# Altium footprint library pads.PcbLib: 30 footprints (part 2 of 2)
Each footprint in its own frame and in the unit in brackets; x right, y up, seen from the top. Pads: shape width x height; smd on the part's side, far side on the other; paste and mask are expansions set on the pad; w line width, h text height; cw(c..) or ccw(c..) is an arc to the next point about the centre after c.
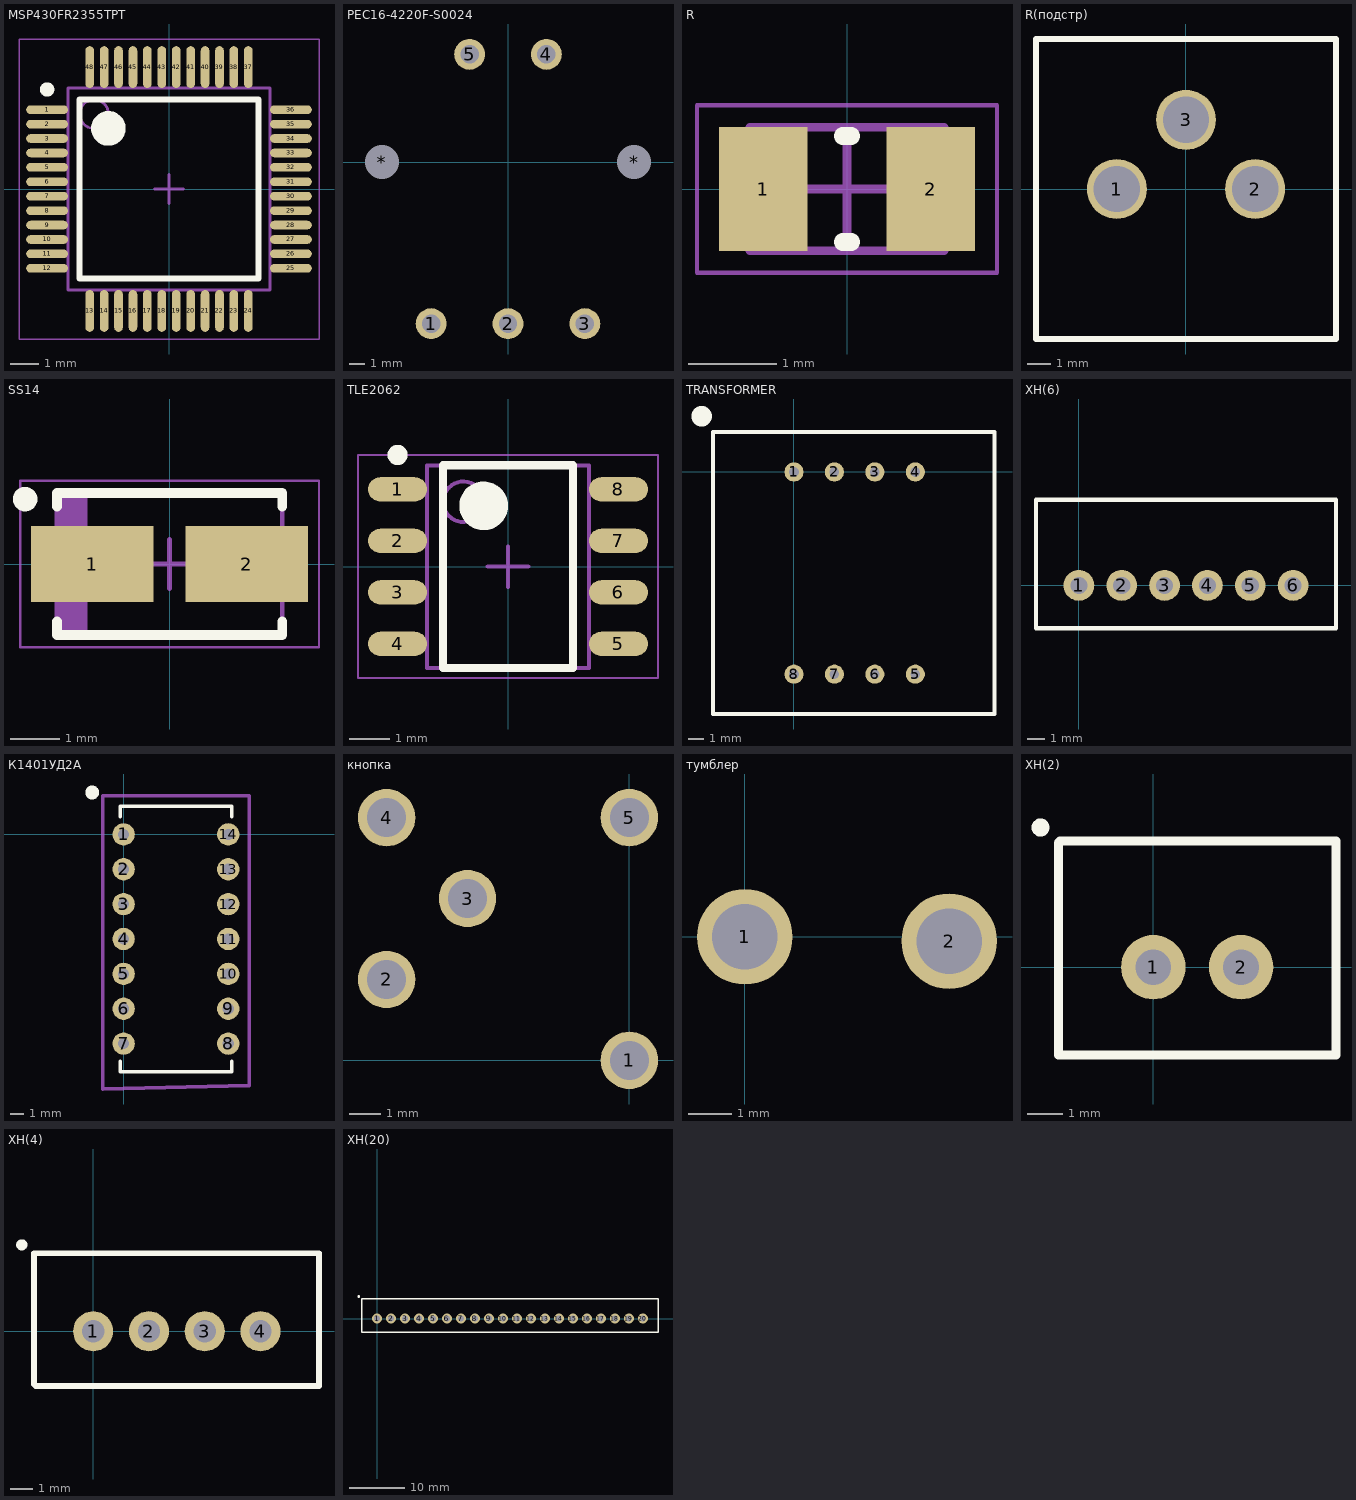
[diagram p1: the footprints below, top view; thin cyan lines are the x and y axes]

## MSP430FR2355TPT [mm] "TSQFP, 48-Leads, Body 7,00x7,00mm, Pitch 0,50mm, IPC Medium Density"
height 1.6
pads (48):
  oval 1.45x0.3 smd: 1(-4.225,2.75) 2(-4.225,2.25) 3(-4.225,1.75) 4(-4.225,1.25) 5(-4.225,0.75) 6(-4.225,0.25) 7(-4.225,-0.25) 8(-4.225,-0.75) 9(-4.225,-1.25) 10(-4.225,-1.75) 11(-4.225,-2.25) 12(-4.225,-2.75) 25(4.225,-2.75) 26(4.225,-2.25) 27(4.225,-1.75) 28(4.225,-1.25) 29(4.225,-0.75) 30(4.225,-0.25) 31(4.225,0.25) 32(4.225,0.75) 33(4.225,1.25) 34(4.225,1.75) 35(4.225,2.25) 36(4.225,2.75)
  oval 0.3x1.45 smd: 13(-2.75,-4.225) 14(-2.25,-4.225) 15(-1.75,-4.225) 16(-1.25,-4.225) 17(-0.75,-4.225) 18(-0.25,-4.225) 19(0.25,-4.225) 20(0.75,-4.225) 21(1.25,-4.225) 22(1.75,-4.225) 23(2.25,-4.225) 24(2.75,-4.225) 37(2.75,4.225) 38(2.25,4.225) 39(1.75,4.225) 40(1.25,4.225) 41(0.75,4.225) 42(0.25,4.225) 43(-0.25,4.225) 44(-0.75,4.225) 45(-1.25,4.225) 46(-1.75,4.225) 47(-2.25,4.225) 48(-2.75,4.225)
Top Overlay:
  circle w0.6: c-2.1,2.1 r0.3
  circle w0.25: c-4.225,3.45 r0.125
  lines w0.2: -3.1,-3.1 3.1,-3.1 3.1,3.1 -3.1,3.1 -3.1,-3.1
Mechanical 13:
  circle w0.1: c-2.6,2.6 r0.5
  lines w0.1: -3.5,-3.5 3.5,-3.5 3.5,3.5 -3.5,3.5 -3.5,-3.5
Mechanical 15:
  lines w0.05: -5.2,-5.2 5.2,-5.2 5.2,5.2 -5.2,5.2 -5.2,-5.2
  lines w0.1: -0.5,0 0.5,0 ; 0,-0.5 0,0.5
3D body "TSQFP50P900X900X160-48N.step": height 1.6, standoff 0, extent -4.5,-4.5 4.5,4.5

## PEC16-4220F-S0024 [mm]
pads (7):
  round 2 hole 1.2: 1(-5,-10.5) 2(0,-10.5) 3(5,-10.5) 4(2.5,7) 5(-2.5,7)
  round 2 hole 2.2 unplated: *(-8.2,0) *(8.2,0)
3D body "User Library-Encoder PEC16-4220F-S0024 BOURNS.step": height 28.3, standoff -3.2, extent -8.25,-12.5 8.25,8.3

## R [mm] "Chip Resistor, 2-Leads, Body 2,10x1,30mm, IPC Medium Density"
height 0.6
pads (2):
  rect 1x1.4 smd: 1(-0.95,0) 2(0.95,0)
Top Overlay:
  lines w0.2: -0.05,-0.6 0.05,-0.6 ; -0.05,0.6 0.05,0.6
Mechanical 13:
  lines w0.1: -1.1,-0.7 1.1,-0.7 1.1,0.7 -1.1,0.7 -1.1,-0.7
Mechanical 15:
  lines w0.05: -1.7,-0.95 1.7,-0.95 1.7,0.95 -1.7,0.95 -1.7,-0.95
  lines w0.1: -0.5,0 0.5,0 ; 0,-0.5 0,0.5
3D body "RESC2113X06N.step": height 0.6, standoff 0, extent -1.1,-0.7 1.1,0.7

## R(подстр) [mm]
pads (3):
  round 2.6 hole 2: 1(-3,0) 2(3,0) 3(0,3)
Top Overlay:
  lines w0.254: -6.5,-6.5 -6.5,0 -6.5,6.5 6.5,6.5 6.5,-6.5 -6.5,-6.5 ; -6.5,-6.5 -6.5,-6.5
3D body: height 0.5, standoff 0.5, extent -3.893,-0.898 -2.1,0.898
3D body: height 0.5, standoff 0.5, extent -0.893,2.102 0.9,3.899
3D body: height 0.5, standoff 0.5, extent 2.107,-0.898 3.9,0.898
3D body: height 6, standoff 0.5, extent -6.5,-6.3 6.3,6.5

## SS14 [mm] "Molded Diode, 2-Leads, Body 4,30x2,70mm, IPC Medium Density"
height 2.44
pads (2):
  rect 2.5x1.55 smd: 1(-1.575,0) 2(1.575,0)
Top Overlay:
  circle w0.25: c-2.95,1.325 r0.125
  lines w0.2: -2.3,-1.175 -2.3,-1.45 2.3,-1.45 2.3,-1.175 ; -2.3,1.175 -2.3,1.45 2.3,1.45 2.3,1.175
Mechanical 13:
  rectangle: -2.3,-1.45 -1.681,1.45
  lines w0.1: -2.3,-1.45 -2.3,1.45 2.3,1.45 2.3,-1.45 -2.3,-1.45
Mechanical 15:
  lines w0.05: -3.05,-1.7 -3.05,1.7 3.05,1.7 3.05,-1.7 -3.05,-1.7
  lines w0.1: -0.5,0 0.5,0 ; 0,-0.5 0,0.5
3D body "DIOM4327X24N.step": height 2.44, standoff 0, extent -2.52,-1.45 2.52,1.45

## TLE2062 [mm] "SOIC, 8-Leads, Body 4,91x3,90mm, Pitch 1,27mm, IPC Medium Density"
height 1.75
pads (8):
  oval 1.45x0.6 smd: 1(-2.725,1.905) 2(-2.725,0.635) 3(-2.725,-0.635) 4(-2.725,-1.905) 5(2.725,-1.905) 6(2.725,-0.635) 7(2.725,0.635) 8(2.725,1.905)
Top Overlay:
  circle w0.6: c-0.6,1.5 r0.3
  circle w0.25: c-2.725,2.755 r0.125
  lines w0.2: -1.6,-2.5 1.6,-2.5 1.6,2.5 -1.6,2.5 -1.6,-2.5
Mechanical 13:
  circle w0.1: c-1.1,1.6 r0.5
  lines w0.1: -2,-2.5 2,-2.5 2,2.5 -2,2.5 -2,-2.5
Mechanical 15:
  lines w0.05: -3.7,-2.75 3.7,-2.75 3.7,2.75 -3.7,2.75 -3.7,-2.75
  lines w0.1: -0.5,0 0.5,0 ; 0,-0.5 0,0.5
3D body "SOIC127P600X175-8N.step": height 1.75, standoff 0, extent -3,-2.5 3,2.5

## TRANSFORMER [mm]
pads (8):
  round 1.2 hole 0.6: 1(0,0) 2(2.54,0) 3(5.08,0) 4(7.62,0) 5(7.62,-12.7) 6(5.08,-12.7) 7(2.54,-12.7) 8(0,-12.7)
Top Overlay:
  circle w1: c-5.8,3.5 r0.141
  lines w0.254: -5.1,-15.2 12.6,-15.2 12.6,2.5 -5,2.5 -5.1,2.5 -5.1,-15.2
3D body "User Library-LM-NP-1001-B1.step": height 12.6, standoff -3.2, extent -5.05,-15.2 12.65,2.5

## XH(6) [mm]
pads (6):
  round 1.8 hole 1: 1(0,0) 2(2.5,0) 3(5,0) 4(7.5,0) 5(10,0) 6(12.5,0)
Top Overlay:
  lines w0.254: -2.5,-2.5 15,-2.5 15,5 -2.5,5 -2.5,2.5 -2.5,-2.5
3D body "User Library-jst-b6b-xh-a.step": height 7, standoff -3.4, extent -2.45,-2.35 14.95,3.4

## К1401УД2А [mm]
pads (14):
  round 1.6 hole 0.8: 1(0,0) 2(0,-2.5) 3(0,-5) 4(0,-7.5) 5(0,-10) 6(0,-12.5) 7(0,-15) 8(7.5,-15) 9(7.5,-12.5) 10(7.5,-10) 11(7.5,-7.5) 12(7.5,-5) 13(7.5,-2.5) 14(7.5,0)
Top Overlay:
  circle w0.5: c-2.25,3 r0.25
  lines w0.254: -0.25,-16.25 -0.25,-17 7.75,-17 7.75,-16.25 ; -0.25,1.25 -0.25,1.5 -0.25,2 7.75,2 7.75,1.25
Mechanical 15:
  lines w0.254: -1.5,2 -1.5,2.75 9,2.75 9,-18 -1.5,-18.25 -1.5,2.5
3D body "CircuitWorks-DIP-14.step": height 4.51, standoff -2.47, extent -0.25,-17.05 7.75,2

## кнопка [mm]
pads (5):
  round 1.8 hole 1.22: 1(0,0) 2(-7.62,2.54) 3(-5.08,5.08) 4(-7.62,7.62) 5(0,7.62)
3D body "User Library-PBS_18B_R.STEP": height 9.8, standoff -4.1, extent -10.025,-2.375 2.375,10.025

## тумблер [mm]
pads (2):
  round 2.2 hole 1.5: 1(0,0) 2(4.7,-0.1)
3D body "User Library-toggle_mts1_assembly.STEP": height 31.17, standoff -5, extent -1.6,-5.799 10.9,5.799

## ХН(2) [mm]
pads (2):
  round 1.8 hole 1: 1(0,0) 2(2.45,0)
Top Overlay:
  circle w0.25: c-3.15,3.9 r0.125
  lines w0.254: -2.65,-2.45 -2.65,3.475 -2.6,3.525 5.1,3.525 5.1,-2.45 -2.65,-2.45
3D body "User Library-PW10-2-M black.step": height 7, standoff -3.3, extent -2.55,-2.325 4.95,3.375

## ХН(4) [mm]
pads (4):
  round 1.8 hole 1: 1(0,0) 2(2.5,0) 3(5,0) 4(7.5,0)
Top Overlay:
  circle w0.25: c-3.2,3.875 r0.125
  lines w0.254: -2.65,-2.375 -2.575,-2.45 10.125,-2.45 10.125,3.5 -2.65,3.5 -2.65,-2.375
3D body "User Library-PW10-4-M black.step": height 7, standoff -3.3, extent -2.525,-2.3 9.975,3.4

## ХН(20) [mm]
pads (20):
  round 1.8 hole 1: 1(0,0) 2(2.5,0) 3(5,0) 4(7.5,0) 5(10,0) 6(12.5,0) 7(15,0) 8(17.5,0) 9(20,0) 10(22.5,0) 11(25,0) 12(27.5,0) 13(30,0) 14(32.5,0) 15(35,0) 16(37.5,0) 17(40,0) 18(42.5,0) 19(45,0) 20(47.5,0)
Top Overlay:
  circle w0.25: c-3.275,3.925 r0.125
  lines w0.254: -2.725,-2.425 50.2,-2.425 50.2,3.55 -2.725,3.55 -2.725,-2.425
3D body "User Library-PW10-20-M black.step": height 7, standoff -3.3, extent -2.55,-2.3 50.05,3.4